# EAGLE library part ATTINY85 (library coomu)
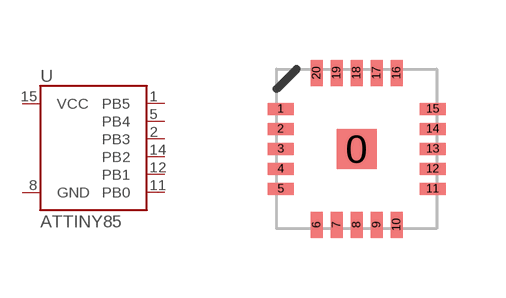
[diagram p0: symbol with the pads of QFN20; footprint QFN20]

Designator prefix -

## ATTINY85  [QFN20]
1  PB5
2  PB3
5  PB4
8  GND
11  PB0
12  PB1
14  PB2
15  VCC

## Footprint QFN20 (pad centres in mm)
smd 1 x 1: 0 0,0
smd 0.65 x 0.3: 1 -1.9,1; 2 -1.9,0.5; 3 -1.9,0; 4 -1.9,-0.5; 5 -1.9,-1; 11 1.9,-1; 12 1.9,-0.5; 13 1.9,0; 14 1.9,0.5; 15 1.9,1
smd 0.3 x 0.65: 6 -1,-1.9; 7 -0.5,-1.9; 8 0,-1.9; 9 0.5,-1.9; 10 1,-1.9; 16 1,1.9; 17 0.5,1.9; 18 0,1.9; 19 -0.5,1.9; 20 -1,1.9